# Altium schematic symbol library Resettable_Fuse_SMD.SchLib: 19 symbols
Pins are listed as number, name and electrical type; pins without a type are passive.

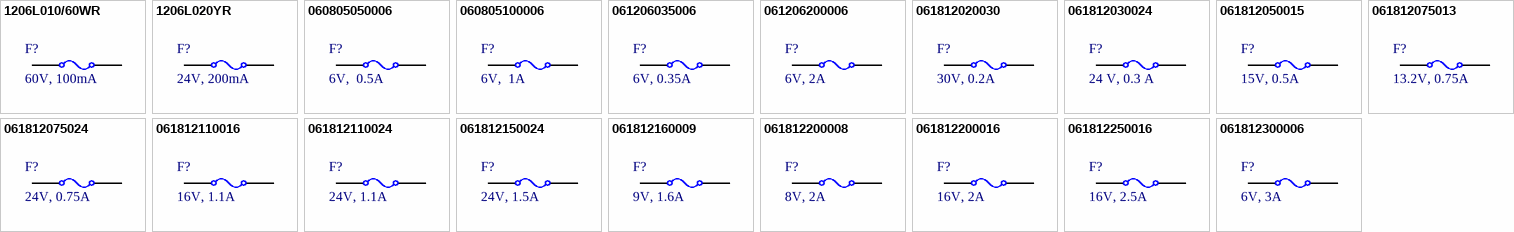
[diagram p0: symbols 1206L010/60WR to 061812300006]

## 1206L010/60WR
designator F?, comment 60V, 100mA
60V 100mA 10A 250mA 1206 Resettable Fuses ROHS; Manufacturer: Littelfuse; Manufacturer Part Number: 1206L010/60WR; Threshold Voltage: 60 V; Threshold Current: 10 A; Hold Current: 100 mA; Trip Current: 250 mA; ComponentLink1Description: Datasheet; ComponentLink1URL: https://lcsc.com/datasheet/lcsc_datasheet_2410121838_Littelfuse-1206L020YR_C207035.pdf; Supplier 1 URL: https://www.mouser.com/ProductDetail/Littelfuse/1206L010-60WR?qs=lM4gFlnEeENS8o0%252BVJMwxw%3D%3D; Supplier 2 URL: https://www.digikey.com/en/products/detail/littelfuse-inc/1206l010-60wr/6234811; Supplier 3 URL: N/A; Value: 60V, 100mA; Mount: SMD/SMT; Package / Case: 1206; Packaging: Tape and Reel; Supplier 1: Mouser; Supplier 1 Part Number: 576-1206L010/60WR; Supplier 2: Digi-Key; Supplier 2 Part Number: F8130TR-ND; Supplier 3: thegioiic; Supplier 3 Part Number: N/A; LCSC Part #: C2153714
footprint Fuse_SMD_1206 (Fuse SMD, size 1206)
pins: 0, 1

## 1206L020YR
designator F?, comment 24V, 200mA
24V 200mA 100A 420mA 1206 Resettable Fuses ROHS; Manufacturer: Littelfuse; Manufacturer Part Number: 1206L020YR; Threshold Voltage: 24 V; Threshold Current: 100 A; Hold Current: 200 mA; Trip Current: 420 mA; ComponentLink1Description: Datasheet; ComponentLink1URL: https://lcsc.com/datasheet/lcsc_datasheet_2410121838_Littelfuse-1206L020YR_C207035.pdf; Supplier 1 URL: https://www.mouser.com/ProductDetail/Littelfuse/1206L020YR?qs=PWhpLWeW8we48TZL2V8mHQ%3D%3D; Supplier 2 URL: https://www.digikey.com/en/products/detail/littelfuse-inc/1206l020yr/455695; Supplier 3 URL: N/A; Value: 24V, 200mA; Mount: SMD/SMT; Package / Case: 1206; Packaging: Tape and Reel; Supplier 1: Mouser; Supplier 1 Part Number: 576-1206L020YR; Supplier 2: Digi-Key; Supplier 2 Part Number: F2109TR-ND; Supplier 3: thegioiic; Supplier 3 Part Number: N/A; LCSC Part #: C207035
footprint Fuse_SMD_1206 (Fuse SMD, size 1206)
pins: 0, 1

## 060805050006
designator F?, comment 6V,  0.5A
Resettable Fuse, Size 0805, 6V, 0.5A; Manufacturer: Littelfuse; Manufacturer Part Number: 0805L050; Threshold Current: 100A; Trip Current: 1A; Threshold Voltage: 6V; Hold Current: 0.5A; ComponentLink1Description: Datasheet; ComponentLink1URL: https://www.littelfuse.com/~/media/electronics/datasheets/resettable_ptcs/littelfuse_ptc_0805l_datasheet.pdf.pdf; Supplier 1 URL: https://www.mouser.vn/ProductDetail/Littelfuse/0805L050WR?qs=SJZ%252BTX%252BI2BS1ufZ22HRodg%3D%3D; Supplier 2 URL: https://www.mouser.vn/ProductDetail/Littelfuse/0805L050WR?qs=SJZ%252BTX%252BI2BS1ufZ22HRodg%3D%3D; Supplier 3 URL: https://www.thegioiic.com/0805l050wr-cau-chi-tu-phuc-hoi-0805-6v-500ma; Value: 6V,  0.5A; Mount: SMD/SMT; Package / Case: 0805; Packaging: Tape and Reel; Supplier 1: Mouser; Supplier 1 Part Number: 576-0805L050; Supplier 2: Digi-Key; Supplier 2 Part Number: F2772TR-ND; Supplier 3: thegioiic; Supplier 3 Part Number: 0805L050WR; LCSC Part #: N/A
footprint Fuse_SMD_0805 (Fuse SMD, size 0805)
pins: 0, 1

## 060805100006
designator F?, comment 6V,  1A
Resettable Fuse, Size 0805, 6V, 1A; Manufacturer: Littelfuse; Manufacturer Part Number: 0805L100; Threshold Current: 40A; Trip Current: 1.95A; Threshold Voltage: 6V; Hold Current: 1A; ComponentLink1Description: Datasheet; ComponentLink1URL: https://www.littelfuse.com/~/media/electronics/datasheets/resettable_ptcs/littelfuse_ptc_0805l_datasheet.pdf.pdf; Supplier 1 URL: https://www.mouser.vn/ProductDetail/Littelfuse/0805L100WR?qs=SJZ%252BTX%252BI2BTMlREVsW49pQ%3D%3D; Supplier 2 URL: https://www.mouser.vn/ProductDetail/Littelfuse/0805L100WR?qs=SJZ%252BTX%252BI2BTMlREVsW49pQ%3D%3D; Supplier 3 URL: https://www.thegioiic.com/0805l100wr-cau-chi-tu-phuc-hoi-0805-6v-1a; Value: 6V,  1A; Mount: SMD/SMT; Package / Case: 0805; Packaging: Tape and Reel; Supplier 1: Mouser; Supplier 1 Part Number: 576-0805L100; Supplier 2: Digi-Key; Supplier 2 Part Number: F2774TR-ND; Supplier 3: thegioiic; Supplier 3 Part Number: 0805L100WR; LCSC Part #: N/A
footprint Fuse_SMD_0805 (Fuse SMD, size 0805)
pins: 0, 1

## 061206035006
designator F?, comment 6V, 0.35A
Resettable Fuse, Size 1206, 6V, 0.35A; Manufacturer: Bourns; Manufacturer Part Number: MF-NSMF035-2; Threshold Current: 100A; Trip Current: 0.75A; Threshold Voltage: 6V; Hold Current: 0.35A; ComponentLink1Description: Datasheet; ComponentLink1URL: https://www.bourns.com/docs/Product-Datasheets/mfnsmf.pdf; Supplier 1 URL: https://www.mouser.vn/ProductDetail/Bourns/MF-NSMF035-2?qs=3eVyCPG4fwnHDrvs%2FGppSw%3D%3D; Supplier 2 URL: https://www.mouser.vn/ProductDetail/Bourns/MF-NSMF035-2?qs=3eVyCPG4fwnHDrvs%2FGppSw%3D%3D; Supplier 3 URL: https://www.thegioiic.com/mf-nsmf035-2-cau-chi-tu-phuc-hoi-1206-6v-0-35a; Value: 6V, 0.35A; Mount: SMD/SMT; Package / Case: 1206; Packaging: Tape and Reel; Supplier 1: Mouser; Supplier 1 Part Number: 652-MF-NSMF035-2; Supplier 2: Digi-Key; Supplier 2 Part Number: MF-NSMF035-2TR-ND; Supplier 3: thegioiic; Supplier 3 Part Number: MF-NSMF035-2; LCSC Part #: N/A
footprint Fuse_SMD_1206 (Fuse SMD, size 1206)
pins: 0, 1

## 061206200006
designator F?, comment 6V, 2A
Resettable Fuse, Size 1206, 6V, 2A; Manufacturer: Bourns; Manufacturer Part Number: MF-NSMF200-2; Threshold Current: 100A; Trip Current: 4A; Threshold Voltage: 6V; Hold Current: 2A; ComponentLink1Description: Datasheet; ComponentLink1URL: https://www.bourns.com/docs/product-datasheets/mf-nsmf.pdf?sfvrsn=39c76af6_20; Supplier 1 URL: https://www.mouser.vn/ProductDetail/Bourns/MF-NSMF200-2?qs=49157WxD7wmY0%2FO7FNMvtw%3D%3D; Supplier 2 URL: https://www.mouser.vn/ProductDetail/Bourns/MF-NSMF200-2?qs=49157WxD7wmY0%2FO7FNMvtw%3D%3D; Supplier 3 URL: https://www.thegioiic.com/mf-nsmf200-2-cau-chi-tu-phuc-hoi-1206-6v-2a; Value: 6V, 2A; Mount: SMD/SMT; Package / Case: 1206; Packaging: Tape and Reel; Supplier 1: Mouser; Supplier 1 Part Number: 652-MF-NSMF200-2; Supplier 2: Digi-Key; Supplier 2 Part Number: MF-NSMF200-2TR-ND; Supplier 3: thegioiic; Supplier 3 Part Number: MF-NSMF200-2; LCSC Part #: N/A
footprint Fuse_SMD_1206 (Fuse SMD, size 1206)
pins: 0, 1

## 061812020030
designator F?, comment 30V, 0.2A
Resettable Fuse, Size 1812, 30V, 0.2A; Manufacturer: Bourns; Manufacturer Part Number: MF-MSMF020-2; Threshold Current: 80A; Trip Current: 0.4A; Threshold Voltage: 30V; Hold Current: 0.2A; ComponentLink1Description: Datasheet; ComponentLink1URL: https://www.bourns.com/docs/Product-Datasheets/mfnsmf.pdf; Supplier 1 URL: https://www.mouser.vn/ProductDetail/Bourns/MF-MSMF020-2?qs=YYkh393lUtjbPn24kFIUNQ%3D%3D; Supplier 2 URL: https://www.mouser.vn/ProductDetail/Bourns/MF-MSMF020-2?qs=YYkh393lUtjbPn24kFIUNQ%3D%3D; Supplier 3 URL: https://www.thegioiic.com/mf-msmf020-2-cau-chi-tu-phuc-hoi-1812-0-20a-30v; Value: 30V, 0.2A; Mount: SMD/SMT; Package / Case: 1812; Packaging: Tape and Reel; Supplier 1: Mouser; Supplier 1 Part Number: 652-MF-MSMF020-2; Supplier 2: Digi-Key; Supplier 2 Part Number: MF-MSMF020-2TR-ND; Supplier 3: thegioiic; Supplier 3 Part Number: MF-MSMF020-2; LCSC Part #: C35456
footprint Fuse_SMD_1812 (Fuse SMD, size 1812)
pins: 0, 1

## 061812030024
designator F?, comment 24 V, 0.3 A
Resettable Fuse, Size 1812, 24V, 1.1A; Manufacturer: Bourns; Manufacturer Part Number: MF-MSMF030-2; Threshold Current: 10 A; Hold Current: 300 mA; Trip Current: 600 mA; Threshold Voltage: 24V; ComponentLink1Description: Datasheet; ComponentLink1URL: https://www.bourns.com/docs/Product-Datasheets/mfnsmf.pdf; Supplier 1 URL: https://www.mouser.com/ProductDetail/Bourns/MF-MSMF030-2?qs=4Enggx7jqVwuh3vnyeU3lA%3D%3D; Supplier 2 URL: https://www.digikey.com/en/products/detail/bourns-inc/mf-msmf030-2/662815; Supplier 3 URL: N/A; Value: 24 V, 0.3 A; Mount: SMD/SMT; Package / Case: 1812; Packaging: Tape and Reel; Supplier 1: Mouser; Supplier 1 Part Number: 652-MF-MSMF030-2; Supplier 2: Digi-Key; Supplier 2 Part Number: MF-MSMF030-2TR-ND; Supplier 3: thegioiic; Supplier 3 Part Number: N/A; LCSC Part #: C12604
footprint Fuse_SMD_1812 (Fuse SMD, size 1812)
pins: 0, 1

## 061812050015
designator F?, comment 15V, 0.5A
Resettable Fuse, Size 1812, 15V, 0.5A; Manufacturer: Bourns; Manufacturer Part Number: MF-MSMF050-2; Threshold Current: 100A; Trip Current: 1A; Threshold Voltage: 15V; Hold Current: 0.5A; ComponentLink1Description: Datasheet; ComponentLink1URL: https://www.bourns.com/docs/Product-Datasheets/mfnsmf.pdf; Supplier 1 URL: https://www.mouser.vn/ProductDetail/Bourns/MF-MSMF050-2?qs=t3shhpq1i1DZ7OBD5kLNoA%3D%3D; Supplier 2 URL: https://www.mouser.vn/ProductDetail/Bourns/MF-MSMF050-2?qs=t3shhpq1i1DZ7OBD5kLNoA%3D%3D; Supplier 3 URL: https://www.thegioiic.com/mf-msmf050-2-cau-chi-tu-phuc-hoi-1812-15v-0-5a; Value: 15V, 0.5A; Mount: SMD/SMT; Package / Case: 1812; Packaging: Tape and Reel; Supplier 1: Mouser; Supplier 1 Part Number: 652-MF-MSMF050-2; Supplier 2: Digi-Key; Supplier 2 Part Number: MF-MSMF050-2TR-ND; Supplier 3: thegioiic; Supplier 3 Part Number: MF-MSMF050-2; LCSC Part #: C17313
footprint Fuse_SMD_1812 (Fuse SMD, size 1812)
pins: 0, 1

## 061812075013
designator F?, comment 13.2V, 0.75A
Resettable Fuse, Size 1812, 13.2V, 0.75A; Manufacturer: Littelfuse; Manufacturer Part Number: MINISMDC075F-2; Threshold Voltage: 13V; Threshold Current: 100A; Trip Current: 1.5A; Hold Current: 0.75A; ComponentLink1Description: Datasheet; ComponentLink1URL: https://www.littelfuse.com/~/media/electronics/product_specifications/resettable_ptcs/littelfuse_ptc_minismdc075f_2_product_specification.pdf.pdf; Supplier 1 URL: https://www.mouser.vn/ProductDetail/Littelfuse/MINISMDC075F-2?qs=k5V78Jg%2Feq6mspvURJRgsw%3D%3D; Supplier 2 URL: https://www.mouser.vn/ProductDetail/Littelfuse/MINISMDC075F-2?qs=k5V78Jg%2Feq6mspvURJRgsw%3D%3D; Supplier 3 URL: https://www.thegioiic.com/minismdc075f-2-cau-chi-tu-phuc-hoi-1812-13v-750ma; Value: 13.2V, 0.75A; Mount: SMD/SMT; Package / Case: 1812; Packaging: Tape and Reel; Supplier 1: Mouser; Supplier 1 Part Number: 650-MINISMDC075F-2; Supplier 2: Digi-Key; Supplier 2 Part Number: MINISMDC075F-2TR-ND; Supplier 3: thegioiic; Supplier 3 Part Number: MINISMDC075F-2; LCSC Part #: N/A
footprint Fuse_SMD_1812 (Fuse SMD, size 1812)
pins: 0, 1

## 061812075024
designator F?, comment 24V, 0.75A
Resettable Fuse, Size 1812, 24V, 0.75A; Manufacturer: Bourns; Manufacturer Part Number: MF-MSMF075/24-2; Threshold Current: 40A; Trip Current: 1.5A; Threshold Voltage: 24V; Hold Current: 0.75A; ComponentLink1Description: Datasheet; ComponentLink1URL: https://www.bourns.com/docs/Product-Datasheets/mfnsmf.pdf; Supplier 1 URL: https://www.mouser.vn/ProductDetail/Bourns/MF-MSMF075-24-2?qs=4wQOTo1SlKkr8xXCy%2FQ4UA%3D%3D; Supplier 2 URL: https://www.mouser.vn/ProductDetail/Bourns/MF-MSMF075-24-2?qs=4wQOTo1SlKkr8xXCy%2FQ4UA%3D%3D; Supplier 3 URL: https://www.thegioiic.com/mf-msmf075-24-2-cau-chi-tu-phuc-hoi-1812-24v-0-75a; Value: 24V, 0.75A; Mount: SMD/SMT; Package / Case: 1812; Packaging: Tape and Reel; Supplier 1: Mouser; Supplier 1 Part Number: 652-MF-MSMF075/24-2; Supplier 2: Digi-Key; Supplier 2 Part Number: MF-MSMF075/24-2TR-ND; Supplier 3: thegioiic; Supplier 3 Part Number: MF-MSMF075/24-2; LCSC Part #: C208467
footprint Fuse_SMD_1812 (Fuse SMD, size 1812)
pins: 0, 1

## 061812110016
designator F?, comment 16V, 1.1A
Resettable Fuse, Size 1812, 16V, 1.1A; Manufacturer: Bourns; Manufacturer Part Number: MF-MSMF110/16-2; Threshold Current: 100A; Trip Current: 2.2A; Threshold Voltage: 16V; Hold Current: 1.1A; ComponentLink1Description: Datasheet; ComponentLink1URL: https://www.bourns.com/docs/Product-Datasheets/mfnsmf.pdf; Supplier 1 URL: https://www.mouser.vn/ProductDetail/Bourns/MF-MSMF110-16-2?qs=wksszfECgvir54ST3ixUHA%3D%3D; Supplier 2 URL: https://www.mouser.vn/ProductDetail/Bourns/MF-MSMF110-16-2?qs=wksszfECgvir54ST3ixUHA%3D%3D; Supplier 3 URL: https://www.thegioiic.com/mf-msmf110-16-2-cau-chi-tu-phuc-hoi-1812-16v-1-1a; Value: 16V, 1.1A; Mount: SMD/SMT; Package / Case: 1812; Packaging: Tape and Reel; Supplier 1: Mouser; Supplier 1 Part Number: 652-MF-MSMF110/16-2; Supplier 2: Digi-Key; Supplier 2 Part Number: MF-MSMF110/16-2TR-ND; Supplier 3: thegioiic; Supplier 3 Part Number: MF-MSMF110/16-2; LCSC Part #: N/A
footprint Fuse_SMD_1812 (Fuse SMD, size 1812)
pins: 0, 1

## 061812110024
designator F?, comment 24V, 1.1A
Resettable Fuse, Size 1812, 24V, 1.1A; Manufacturer: Bourns; Manufacturer Part Number: MF-MSMF110/24X-2; Threshold Current: 20A; Trip Current: 2.2A; Threshold Voltage: 24V; Hold Current: 1.1A; ComponentLink1Description: Datasheet; ComponentLink1URL: https://www.bourns.com/docs/Product-Datasheets/mfnsmf.pdf; Supplier 1 URL: https://www.mouser.vn/ProductDetail/Bourns/MF-MSMF110-24X-2?qs=tiksPeNXt0KSvkNsPEvQzw%3D%3D; Supplier 2 URL: https://www.mouser.vn/ProductDetail/Bourns/MF-MSMF110-24X-2?qs=tiksPeNXt0KSvkNsPEvQzw%3D%3D; Supplier 3 URL: https://www.thegioiic.com/mf-msmf110-24x-2-cau-chi-tu-phuc-hoi-1812-24v-1-1a; Value: 24V, 1.1A; Mount: SMD/SMT; Package / Case: 1812; Packaging: Tape and Reel; Supplier 1: Mouser; Supplier 1 Part Number: 652-MF-MSMF110/24X-2; Supplier 2: Digi-Key; Supplier 2 Part Number: MF-MSMF110/24X-2TR-ND; Supplier 3: thegioiic; Supplier 3 Part Number: MF-MSMF110/24X-2; LCSC Part #: C210835
footprint Fuse_SMD_1812 (Fuse SMD, size 1812)
pins: 0, 1

## 061812150024
designator F?, comment 24V, 1.5A
Resettable Fuse, Size 1812, 24V, 1.5A; Manufacturer: Littelfuse; Manufacturer Part Number: MINISMDC150F/24; Threshold Current: 20A; Trip Current: 3A; Threshold Voltage: 24V; Hold Current: 1.5A; ComponentLink1Description: Datasheet; ComponentLink1URL: https://www.littelfuse.com/~/media/electronics/product_specifications/resettable_ptcs/littelfuse_ptc_minismdc300f_2_product_specification.pdf.pdf; Supplier 1 URL: https://www.mouser.vn/ProductDetail/Littelfuse/MINISMDC150F-24-2?qs=F6FIpiMdEVZ%2Fp37J%2FDHAxA%3D%3D; Supplier 2 URL: https://www.mouser.vn/ProductDetail/Littelfuse/MINISMDC150F-24-2?qs=F6FIpiMdEVZ%2Fp37J%2FDHAxA%3D%3D; Supplier 3 URL: https://www.thegioiic.com/cau-chi-tu-phuc-hoi-1812-24v-1-5a; Value: 24V, 1.5A; Mount: SMD/SMT; Package / Case: 1812; Packaging: Tape and Reel; Supplier 1: Mouser; Supplier 1 Part Number: 650-MINISMDC150F/24; Supplier 2: Digi-Key; Supplier 2 Part Number: MINISMDC150F24-2TR-ND; Supplier 3: thegioiic; Supplier 3 Part Number: N/A; LCSC Part #: N/A
footprint Fuse_SMD_1812 (Fuse SMD, size 1812)
pins: 0, 1

## 061812160009
designator F?, comment 9V, 1.6A
Resettable Fuse, Size 1812, 9V, 1.6A; Manufacturer: Littelfuse; Manufacturer Part Number: MINISMDC160F-2; Threshold Current: 100A; Trip Current: 3.2A; Threshold Voltage: 9V; Hold Current: 1.6A; ComponentLink1Description: Datasheet; ComponentLink1URL: https://www.littelfuse.com/~/media/electronics/product_specifications/resettable_ptcs/littelfuse_ptc_minismdc300f_2_product_specification.pdf.pdf; Supplier 1 URL: https://www.mouser.vn/ProductDetail/Littelfuse/miniSMDC160F-2?qs=F6FIpiMdEVaTu%252B225tqW3A%3D%3D; Supplier 2 URL: https://www.mouser.vn/ProductDetail/Littelfuse/miniSMDC160F-2?qs=F6FIpiMdEVaTu%252B225tqW3A%3D%3D; Supplier 3 URL: https://www.thegioiic.com/cau-chi-tu-phuc-hoi-1812-9v-1-6a; Value: 9V, 1.6A; Mount: SMD/SMT; Package / Case: 1812; Packaging: Tape and Reel; Supplier 1: Mouser; Supplier 1 Part Number: 650-MINISMDC160F-2; Supplier 2: Digi-Key; Supplier 2 Part Number: MINISMDC160F-2TR-ND; Supplier 3: thegioiic; Supplier 3 Part Number: N/A; LCSC Part #: N/A
footprint Fuse_SMD_1812 (Fuse SMD, size 1812)
pins: 0, 1

## 061812200008
designator F?, comment 8V, 2A
Resettable Fuse, Size 1812, 8V, 2A; Manufacturer: Littelfuse; Manufacturer Part Number: MINISMDC200F-2; Threshold Current: 100A; Trip Current: 4A; Threshold Voltage: 8V; Hold Current: 2A; ComponentLink1Description: Datasheet; ComponentLink1URL: https://www.littelfuse.com/~/media/electronics/product_specifications/resettable_ptcs/littelfuse_ptc_minismdc300f_2_product_specification.pdf.pdf; Supplier 1 URL: https://www.mouser.vn/ProductDetail/Littelfuse/MINISMDC200F-2?qs=F6FIpiMdEVbPu4q%2F42CC1w%3D%3D; Supplier 2 URL: https://www.mouser.vn/ProductDetail/Littelfuse/MINISMDC200F-2?qs=F6FIpiMdEVbPu4q%2F42CC1w%3D%3D; Supplier 3 URL: https://www.thegioiic.com/cau-chi-tu-phuc-hoi-1812-8v-2a; Value: 8V, 2A; Mount: SMD/SMT; Package / Case: 1812; Packaging: Tape and Reel; Supplier 1: Mouser; Supplier 1 Part Number: 650-MINISMDC200F-2; Supplier 2: Digi-Key; Supplier 2 Part Number: MINISMDC200F-2TR-ND; Supplier 3: thegioiic; Supplier 3 Part Number: N/A; LCSC Part #: N/A
footprint Fuse_SMD_1812 (Fuse SMD, size 1812)
pins: 0, 1

## 061812200016
designator F?, comment 16V, 2A
Resettable Fuse, Size 1812, 16V, 2A; Manufacturer: Littelfuse; Manufacturer Part Number: MINISMDC200F/162; Threshold Current: 40A; Trip Current: 4A; Threshold Voltage: 16V; Hold Current: 2A; ComponentLink1Description: Datasheet; ComponentLink1URL: https://www.littelfuse.com/~/media/electronics/product_specifications/resettable_ptcs/littelfuse_ptc_minismdc300f_2_product_specification.pdf.pdf; Supplier 1 URL: https://www.mouser.vn/ProductDetail/Littelfuse/MINISMDC200F-16-2?qs=pBN%2FbMTRZdcH0yqkqvkPxw%3D%3D; Supplier 2 URL: https://www.mouser.vn/ProductDetail/Littelfuse/MINISMDC200F-16-2?qs=pBN%2FbMTRZdcH0yqkqvkPxw%3D%3D; Supplier 3 URL: https://www.thegioiic.com/cau-chi-tu-phuc-hoi-1812-16v-2a; Value: 16V, 2A; Mount: SMD/SMT; Package / Case: 1812; Packaging: Tape and Reel; Supplier 1: Mouser; Supplier 1 Part Number: 650-MINISMDC200F/162; Supplier 2: Digi-Key; Supplier 2 Part Number: MINISMDC200F/16-2TR-ND; Supplier 3: thegioiic; Supplier 3 Part Number: N/A; LCSC Part #: N/A
footprint Fuse_SMD_1812 (Fuse SMD, size 1812)
pins: 0, 1

## 061812250016
designator F?, comment 16V, 2.5A
Resettable Fuse, Size 1812, 16V, 2.5A; Manufacturer: Bourns; Manufacturer Part Number: MF-MSMF250/16X-2; Threshold Current: 100A; Trip Current: 5A; Threshold Voltage: 16V; Hold Current: 2.5A; ComponentLink1Description: Datasheet; ComponentLink1URL: https://www.bourns.com/docs/Product-Datasheets/mfnsmf.pdf; Supplier 1 URL: https://www.mouser.vn/ProductDetail/Bourns/MF-MSMF250-16X-2?qs=9fn1gpisni78zr7pGyDhCQ%3D%3D; Supplier 2 URL: https://www.mouser.vn/ProductDetail/Bourns/MF-MSMF250-16X-2?qs=9fn1gpisni78zr7pGyDhCQ%3D%3D; Supplier 3 URL: https://www.thegioiic.com/mf-msmf250-16-cau-chi-tu-phuc-hoi-1812-16v-2-5a; Value: 16V, 2.5A; Mount: SMD/SMT; Package / Case: 1812; Packaging: Tape and Reel; Supplier 1: Mouser; Supplier 1 Part Number: 652-MF-MSMF250/16X-2; Supplier 2: Digi-Key; Supplier 2 Part Number: MF-MSMF250/16X-2TR-ND; Supplier 3: thegioiic; Supplier 3 Part Number: MF-MSMF250/16; LCSC Part #: N/A
footprint Fuse_SMD_1812 (Fuse SMD, size 1812)
pins: 0, 1

## 061812300006
designator F?, comment 6V, 3A
Resettable Fuse, Size 1812, 6V, 3A; Manufacturer: Littelfuse; Manufacturer Part Number: MINISMDC300F-2; Threshold Current: 100A; Trip Current: 6A; Threshold Voltage: 6V; Hold Current: 3A; ComponentLink1Description: Datasheet; ComponentLink1URL: https://www.littelfuse.com/~/media/electronics/product_specifications/resettable_ptcs/littelfuse_ptc_minismdc300f_2_product_specification.pdf.pdf; Supplier 1 URL: https://www.mouser.vn/ProductDetail/Littelfuse/MINISMDC300F-2?qs=NBx1VnXdadznR1WtAMXLew%3D%3D; Supplier 2 URL: https://www.mouser.vn/ProductDetail/Littelfuse/MINISMDC300F-2?qs=NBx1VnXdadznR1WtAMXLew%3D%3D; Supplier 3 URL: https://www.thegioiic.com/cau-chi-tu-phuc-hoi-1812-6v-3a; Value: 6V, 3A; Mount: SMD/SMT; Package / Case: 1812; Packaging: Tape and Reel; Supplier 1: Mouser; Supplier 1 Part Number: 650-MINISMDC300F-2; Supplier 2: Digi-Key; Supplier 2 Part Number: MINISMDC300F-2TR-ND; Supplier 3: thegioiic; Supplier 3 Part Number: N/A; LCSC Part #: N/A
footprint Fuse_SMD_1812 (Fuse SMD, size 1812)
pins: 0, 1